# EAGLE library part ATMEGA165 (library Atmel)
8-bit AVR Microcontroller with 16K Bytes In-System Programmable Flash
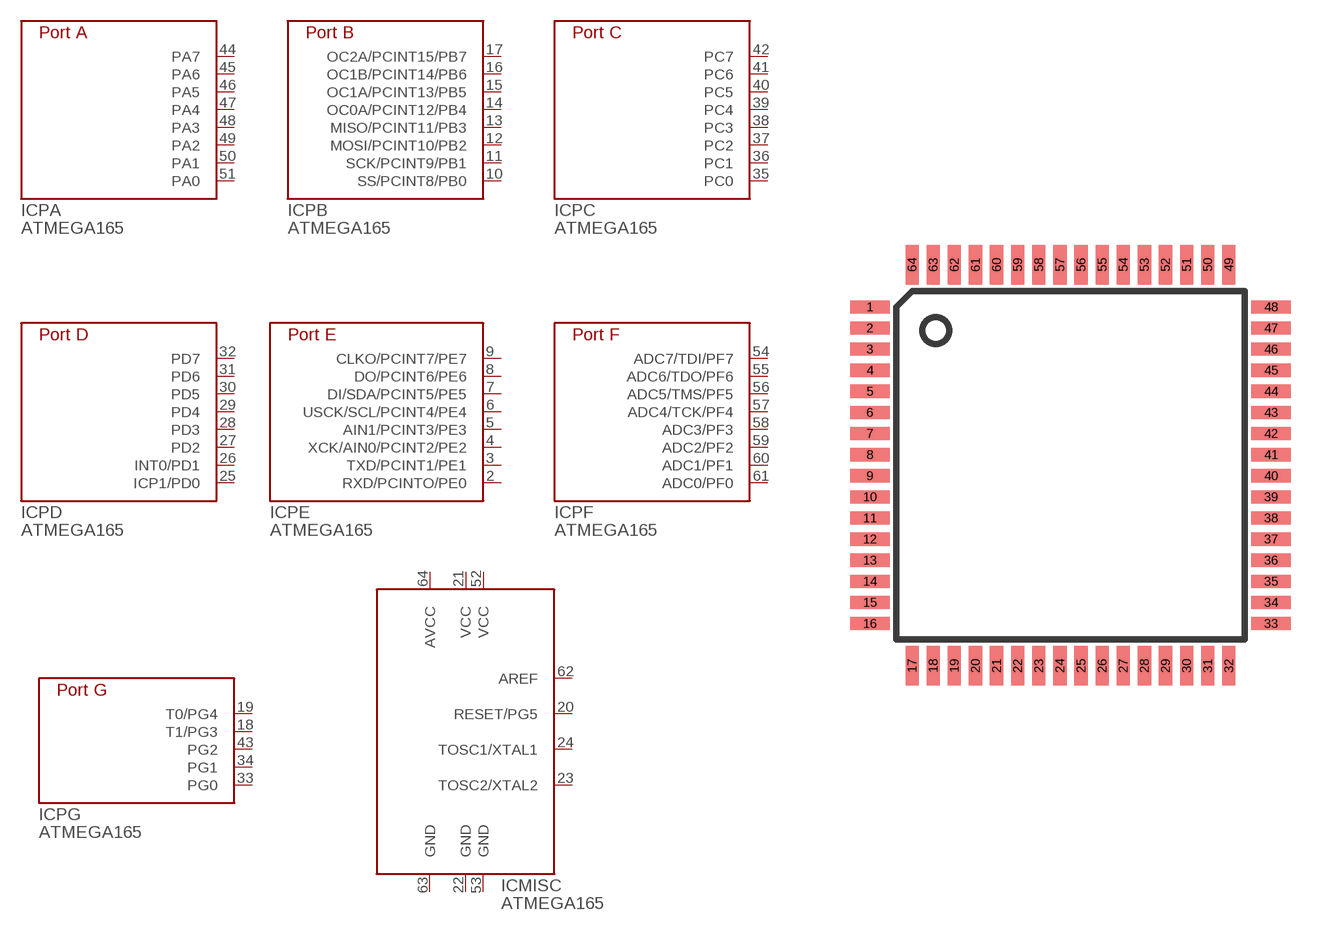
[diagram p11: symbol with the pads of TQ64-64A; footprint TQ64-64A]

Designator prefix IC; gates PA=ATMEGA165-A PB=ATMEGA165-B PC=ATMEGA165-C PD=ATMEGA165-D PE=ATMEGA165-E PF=ATMEGA165-F PG=ATMEGA165-G MISC=ATMEGA165-MISC

## ATMEGA165-AU  [TQ64-64A]
2  PE:RXD/PCINTO/PE0
3  PE:TXD/PCINT1/PE1
4  PE:XCK/AIN0/PCINT2/PE2
5  PE:AIN1/PCINT3/PE3
6  PE:USCK/SCL/PCINT4/PE4
7  PE:DI/SDA/PCINT5/PE5
8  PE:DO/PCINT6/PE6
9  PE:CLKO/PCINT7/PE7
10  PB:SS/PCINT8/PB0
11  PB:SCK/PCINT9/PB1
12  PB:MOSI/PCINT10/PB2
13  PB:MISO/PCINT11/PB3
14  PB:OC0A/PCINT12/PB4
15  PB:OC1A/PCINT13/PB5
16  PB:OC1B/PCINT14/PB6
17  PB:OC2A/PCINT15/PB7
18  PG:T1/PG3
19  PG:T0/PG4
20  MISC:RESET/PG5
21  MISC:VCC
22  MISC:GND
23  MISC:TOSC2/XTAL2
24  MISC:TOSC1/XTAL1
25  PD:ICP1/PD0
26  PD:INT0/PD1
27  PD:PD2
28  PD:PD3
29  PD:PD4
30  PD:PD5
31  PD:PD6
32  PD:PD7
33  PG:PG0
34  PG:PG1
35  PC:PC0
36  PC:PC1
37  PC:PC2
38  PC:PC3
39  PC:PC4
40  PC:PC5
41  PC:PC6
42  PC:PC7
43  PG:PG2
44  PA:PA7
45  PA:PA6
46  PA:PA5
47  PA:PA4
48  PA:PA3
49  PA:PA2
50  PA:PA1
51  PA:PA0
52  MISC:VCC
53  MISC:GND
54  PF:ADC7/TDI/PF7
55  PF:ADC6/TDO/PF6
56  PF:ADC5/TMS/PF5
57  PF:ADC4/TCK/PF4
58  PF:ADC3/PF3
59  PF:ADC2/PF2
60  PF:ADC1/PF1
61  PF:ADC0/PF0
62  MISC:AREF
63  MISC:GND
64  MISC:AVCC

## Footprint TQ64-64A (pad centres in mm)
64A, 64-Lead, 14x14mm Body, 1.0mm Body Thickness, 0.8mm Lead Pitch, TQFP
smd 1.5 x 0.5: 1 -7.6,6; 2 -7.6,5.2; 3 -7.6,4.4; 4 -7.6,3.6; 5 -7.6,2.8; 6 -7.6,2; 7 -7.6,1.2; 8 -7.6,0.4; 9 -7.6,-0.4; 10 -7.6,-1.2; 11 -7.6,-2; 12 -7.6,-2.8; 13 -7.6,-3.6; 14 -7.6,-4.4; 15 -7.6,-5.2; 16 -7.6,-6; 33 7.6,-6; 34 7.6,-5.2; 35 7.6,-4.4; 36 7.6,-3.6; 37 7.6,-2.8; 38 7.6,-2; 39 7.6,-1.2; 40 7.6,-0.4; 41 7.6,0.4; 42 7.6,1.2; 43 7.6,2; 44 7.6,2.8; 45 7.6,3.6; 46 7.6,4.4; 47 7.6,5.2; 48 7.6,6
smd 0.5 x 1.5: 17 -6,-7.6; 18 -5.2,-7.6; 19 -4.4,-7.6; 20 -3.6,-7.6; 21 -2.8,-7.6; 22 -2,-7.6; 23 -1.2,-7.6; 24 -0.4,-7.6; 25 0.4,-7.6; 26 1.2,-7.6; 27 2,-7.6; 28 2.8,-7.6; 29 3.6,-7.6; 30 4.4,-7.6; 31 5.2,-7.6; 32 6,-7.6; 49 6,7.6; 50 5.2,7.6; 51 4.4,7.6; 52 3.6,7.6; 53 2.8,7.6; 54 2,7.6; 55 1.2,7.6; 56 0.4,7.6; 57 -0.4,7.6; 58 -1.2,7.6; 59 -2,7.6; 60 -2.8,7.6; 61 -3.6,7.6; 62 -4.4,7.6; 63 -5.2,7.6; 64 -6,7.6